# Altium integrated library SophistiLib.IntLib: 38 symbols
Pins are listed as number, name and electrical type; pins without a type are passive.

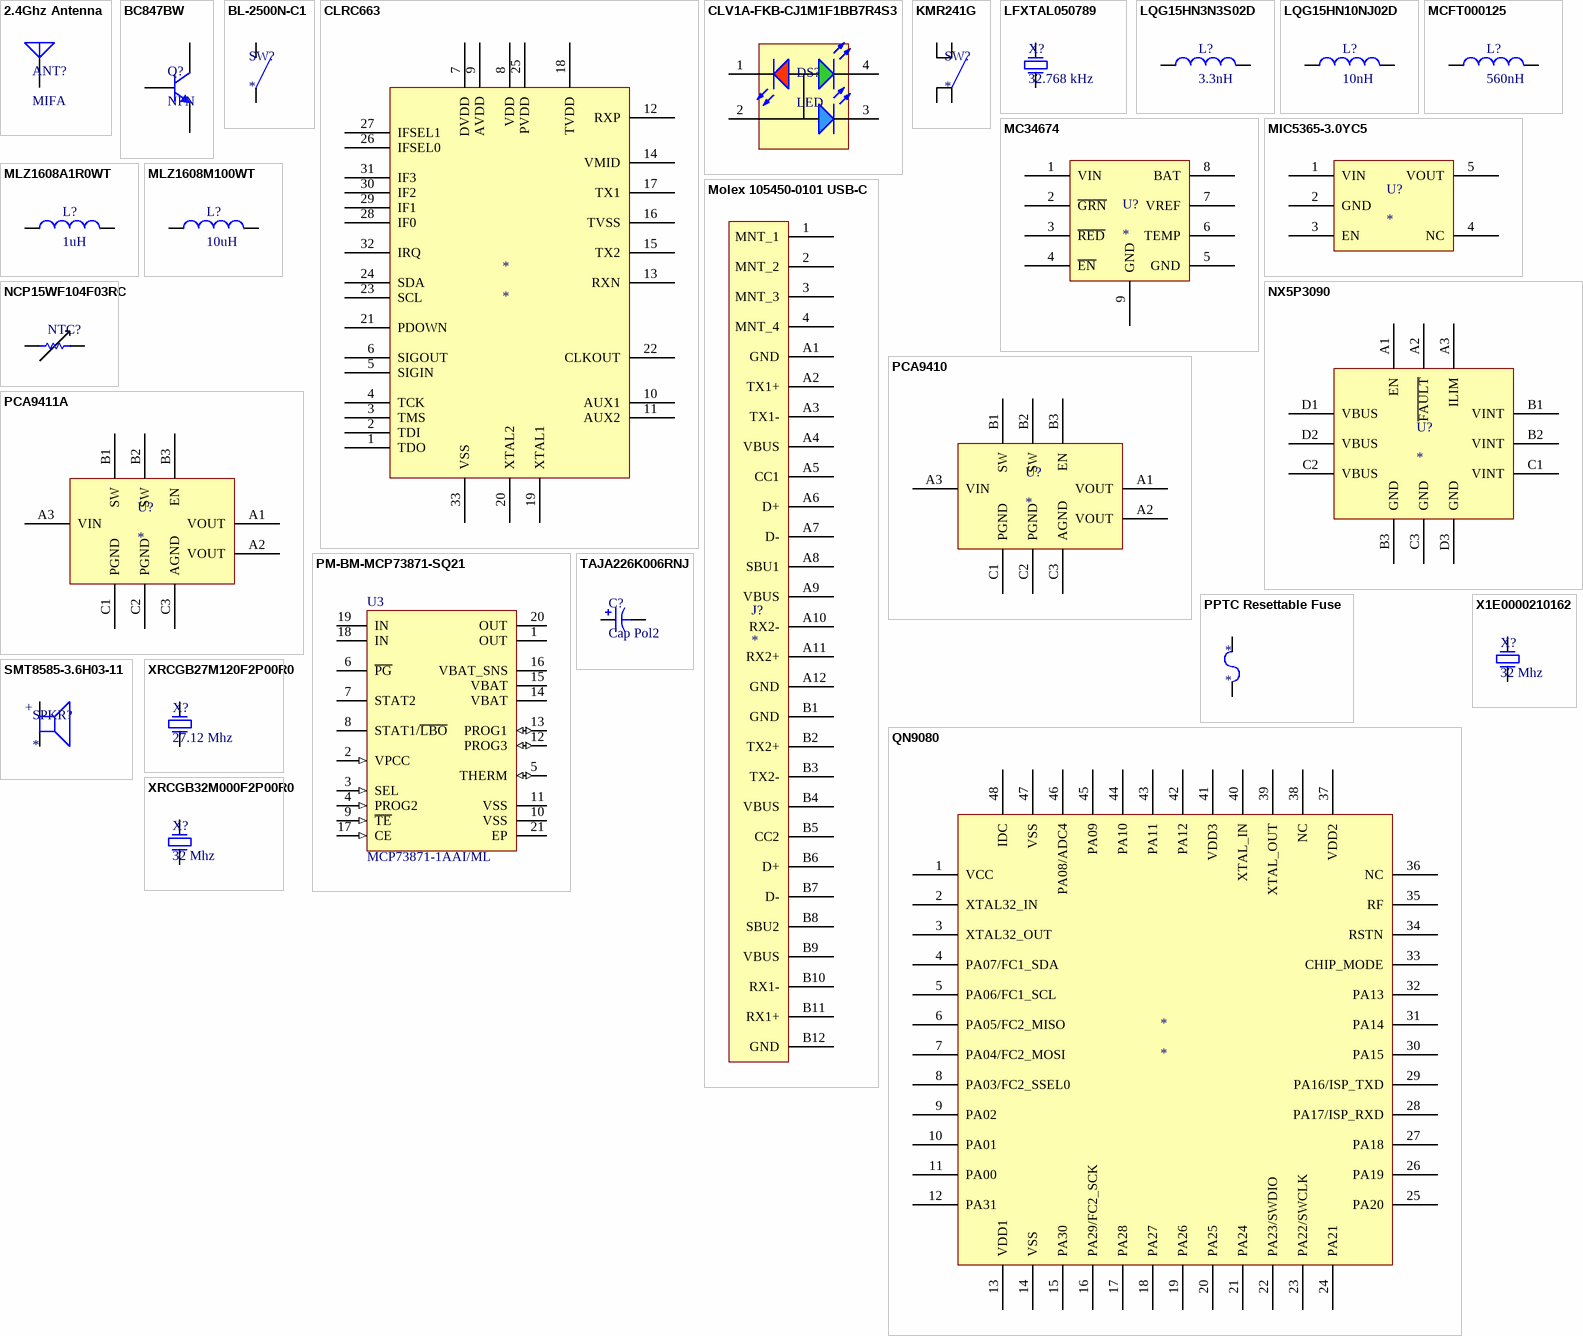
[diagram p0: symbols 2.4Ghz Antenna to XRCGB32M000F2P00R0]

## 2.4Ghz Antenna
designator ANT?, comment MIFA
2.4 Ghz MIFA Antenna
footprint 2.4G MIFA (2.4G MIFA Trace Antenna)
pins: 1 A, 2 GND hidden to GND

## BC847BW
designator Q?, comment NPN
Bipolar (BJT) Single Transistor, General Purpose, NPN, 45 V, 100 MHz, 200 mW, 100 mA, 200 hFE
footprint SOT323
pins: 1 B, 2 E, 3 C

## BL-2500N-C1
designator SW?
SMD vibration sensor
footprint BL-2500N-C1
pins: 1, 2

## CLRC663
designator *
RFID READER, 13.56MHZ, HVQFN-32
footprint HVQFN-32
pins: 1 TDO, 2 TDI, 3 TMS, 4 TCK, 5 SIGIN, 6 SIGOUT, 7 DVDD, 8 VDD, 9 AVDD, 10 AUX1, 11 AUX2, 12 RXP, 13 RXN, 14 VMID, 15 TX2, 16 TVSS, 17 TX1, 18 TVDD, 19 XTAL1, 20 XTAL2, 21 PDOWN, 22 CLKOUT, 23 SCL, 24 SDA, 25 PVDD, 26 IFSEL0, 27 IFSEL1, 28 IF0, 29 IF1, 30 IF2, 31 IF3, 32 IRQ, 33 VSS

## CLV1A-FKB-CJ1M1F1BB7R4S3
designator DS?, comment LED
RGB LED, SMD, 120 °, Round, R 20mA, G 20mA, B 20mA
footprint RGB_LED_3.2x2.8
pins: 1 RED, 2 +, 3 Blue, 4 Green

## KMR241G
designator SW?
Tactile Switch 2.4x2.8 mm, SPST
footprint KMR241G
pins: 1 A1, 2 B1, 3 A2, 4 B2

## LFXTAL050789
designator X?, comment 32.768 kHz
Crystal, 32.768 kHz, SMD, 2mm x 1.2mm, 12.5 pF, 20 ppm
footprint OSC20x12_2P (Crystal 2.0x1.2 mm 2 Pins)
pins: 1 I/O, 2 I/O

## LQG15HN3N3S02D
designator L?, comment 3.3nH
High Frequency Inductor, LQG15HN Series, 3.3 nH, 300 mA, 0402; Value: 3.3nH
footprint INDC0402
pins: 1, 2

## LQG15HN10NJ02D
designator L?, comment 10nH
High Frequency Inductor, LQG15HN Series, 10 nH, 300 mA, 0402; Value: 10nH
footprint INDC0402
pins: 1, 2

## MC34674
designator U?
High Input Voltage Travel Charger for Single-cell Li-Ion Batteries
footprint UDFN8
pins: 1 VIN (power), 2 ~{GRN} (oc), 3 ~{RED} (oc), 4 ~{EN}, 5 GND (power), 6 TEMP, 7 VREF, 8 BAT (power), 9 GND (power)

## MCFT000125
designator L?, comment 560nH
High Frequency Inductor, MCFT Series, 560 nH, 230 mA, 0805; Value: 560nH
footprint INDC0805
pins: 1, 2

## MIC5365-3.0YC5
designator U?
3.0V LDO Voltage Regulator
footprint SC-70
pins: 1 VIN, 2 GND, 3 EN, 4 NC, 5 VOUT

## MLZ1608A1R0WT
designator L?, comment 1uH
High Frequency Inductor, MLZ Series, 1 µH, 600 mA, 0603; Value: 1uH
footprint INDC0603
pins: 1, 2

## MLZ1608M100WT
designator L?, comment 10uH
High Frequency Inductor, MLZ Series, 10 µH, 250 mA, 0603; Value: 10uH
footprint INDC0603
pins: 1, 2

## Molex 105450-0101 USB-C
designator J?
USB Shielded I/O Receptacle, Type C, Right Angle, Top Mount, Surface Mount
footprint Molex 105450-0101 USB-C
pins: 1 MNT_1, 2 MNT_2, 3 MNT_3, 4 MNT_4, A1 GND, A2 TX1+, A3 TX1-, A4 VBUS, A5 CC1, A6 D+, A7 D-, A8 SBU1, A9 VBUS, A10 RX2-, A11 RX2+, A12 GND, B1 GND, B2 TX2+, B3 TX2-, B4 VBUS, B5 CC2, B6 D+, B7 D-, B8 SBU2, B9 VBUS, B10 RX1-, B11 RX1+, B12 GND

## NCP15WF104F03RC
designator NTC?
Thermistor, NTC, 100 kohm, NCP Series, 4250 K, SMD, 0402
footprint THRMC0402
pins: 1, 2

## NX5P3090
designator U?
USB PD and type C current-limited power switch
footprint WLCSP12
pins: A1 EN, A2 ~{FAULT}, A3 ILIM, B1 VINT (power), B2 VINT (power), B3 GND (power), C1 VINT (power), C2 VBUS (power), C3 GND (power), D1 VBUS (power), D2 VBUS (power), D3 GND (power)

## PCA9410
designator U?
3.0 MHz, 500 mA, DC-to-DC boost converter, 2.5 min in, 5.0 out, non pass-through
footprint WLCSP9
pins: A1 VOUT, A2 VOUT, A3 VIN, B1 SW, B2 SW, B3 EN, C1 PGND, C2 PGND, C3 AGND

## PCA9411A
designator U?
3.0 MHz, 500 mA, DC-to-DC boost converter, 2.5 min in, 5.25 out, pass-through
footprint WLCSP9
pins: A1 VOUT, A2 VOUT, A3 VIN, B1 SW, B2 SW, B3 EN, C1 PGND, C2 PGND, C3 AGND

## PM-BM-MCP73871-SQ21
designator U3, comment MCP73871-1AAI/ML
Stand-Alone System Load Sharing and Li-Ion/Li-Polymer Battery Charge Management Controller, 4.1V, 20-Pin QFN, Industrial Temperature; PackageDescription: 20-Lead Plastic Quad Flat, No Lead Package (ML) - 4x4x0.9 mm Body [QFN]; PackageVersion: revBB, Aug-2009; DatasheetVersion: revB, May-2009; PackageReference: QFN-ML20
footprint QFN-ML20_N (QFN, 20-Leads, Body 4x4mm, Pitch 0.5mm, Thermal Pad 2.8x2.8mm, IPC Medium Density)
footprint QFN-ML20_L (QFN, 20-Leads, Body 4x4mm, Pitch 0.5mm, Thermal Pad 2.8x2.8mm, IPC High Density)
footprint QFN-ML20_M (QFN, 20-Leads, Body 4x4mm, Pitch 0.5mm, Thermal Pad 2.8x2.8mm, IPC Low Density)
pins: 1 OUT (power), 2 VPCC (in), 3 SEL (in), 4 PROG2 (in), 5 THERM (io), 6 ~{PG} (oc), 7 STAT2 (oc), 8 STAT1/~{LBO} (oc), 9 ~{TE} (in), 10 VSS (power), 11 VSS (power), 12 PROG3 (io), 13 PROG1 (io), 14 VBAT (power), 15 VBAT (power), 16 VBAT_SNS (power), 17 CE (in), 18 IN (power), 19 IN (power), 20 OUT (power), 21 EP (power)

## PPTC Resettable Fuse
designator *
PPTC Resettable Fuse
footprint FUSC0805
pins: 1, 2

## QN9080
designator *
BLE microcontroller with 32-bit ARM Cortex-M4
footprint HVQFN-48
pins: 1 VCC, 2 XTAL32_IN, 3 XTAL32_OUT, 4 PA07/FC1_SDA, 5 PA06/FC1_SCL, 6 PA05/FC2_MISO, 7 PA04/FC2_MOSI, 8 PA03/FC2_SSEL0, 9 PA02, 10 PA01, 11 PA00, 12 PA31, 13 VDD1 (power), 14 VSS (power), 15 PA30, 16 PA29/FC2_SCK, 17 PA28, 18 PA27, 19 PA26, 20 PA25, 21 PA24, 22 PA23/SWDIO, 23 PA22/SWCLK, 24 PA21, 25 PA20, 26 PA19, 27 PA18, 28 PA17/ISP_RXD, 29 PA16/ISP_TXD, 30 PA15, 31 PA14, 32 PA13, 33 CHIP_MODE, 34 RSTN, 35 RF, 36 NC, 37 VDD2, 38 NC, 39 XTAL_OUT, 40 XTAL_IN, 41 VDD3 (power), 42 PA12, 43 PA11, 44 PA10, 45 PA09, 46 PA08/ADC4, 47 VSS (power), 48 IDC (power), 49 GND (power) hidden to GND

## SMT8585-3.6H03-11
designator SPKR?
Electro-Magnet Transducer, 2.5-4.5 Vo-p, 15±3ohm
footprint SMT8585-3.6H03-11
pins: 1 +, 2 -, 3 M hidden, 4 M hidden

## TAJA226K006RNJ
designator C?, comment Cap Pol2
Surface Mount Tantalum Capacitor, 22 µF, 6.3 V, TAJ Series, ± 10%, 1206 [3216 Metric]
footprint POLCAP1206
pins: 1, 2

## X1E0000210162
designator X?, comment 32 Mhz
Crystal, 32 MHz, SMD, 3.2mm x 2.5mm, 10 ppm, 9 pF, 10 ppm
footprint OSC32X25
pins: 1 I/O, 2 GND hidden to GND, 3 I/O, 4 GND hidden to GND

## XRCGB27M120F2P00R0
designator X?, comment 27.12 Mhz
Crystal, 27.12 MHz, SMD, 2mm x 1.6mm, 20 ppm, 6 pF
footprint OSC20x16
pins: 1 I/O, 2 GND hidden to GND, 3 I/O, 4 GND hidden to GND

## XRCGB32M000F2P00R0
designator X?, comment 32 Mhz
Crystal, 32 MHz, SMD, 2mm x 1.6mm, 20 ppm, 6 pF
footprint OSC20x16
pins: 1 I/O, 2 GND hidden to GND, 3 I/O, 4 GND hidden to GND


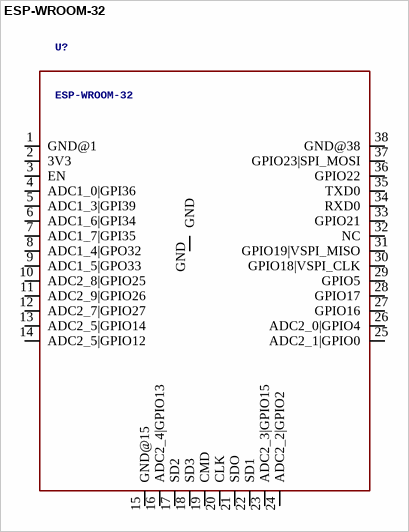
[diagram p1: symbol ESP-WROOM-32]

## ESP-WROOM-32
designator U?
GateName_1: G$1; SymbolName_1: ESP-WROOM-32; LibraryName: esp32; DeviceSetName: ESP-WROOM-32
footprint ESP-WROOM-32
pins: 1 GND@1, 2 3V3, 3 EN, 4 ADC1_0|GPI36, 5 ADC1_3|GPI39, 6 ADC1_6|GPI34, 7 ADC1_7|GPI35, 8 ADC1_4|GPO32, 9 ADC1_5|GPO33, 10 ADC2_8|GPIO25, 11 ADC2_9|GPIO26, 12 ADC2_7|GPIO27, 13 ADC2_5|GPIO14, 14 ADC2_5|GPIO12, 15 GND@15, 16 ADC2_4|GPIO13, 17 SD2, 18 SD3, 19 CMD, 20 CLK, 21 SDO, 22 SD1, 23 ADC2_3|GPIO15, 24 ADC2_2|GPIO2, 25 ADC2_1|GPIO0, 26 ADC2_0|GPIO4, 27 GPIO16, 28 GPIO17, 29 GPIO5, 30 GPIO18|VSPI_CLK, 31 GPIO19|VSPI_MISO, 32 NC, 33 GPIO21, 34 RXD0, 35 TXD0, 36 GPIO22, 37 GPIO23|SPI_MOSI, 38 GND@38, GND


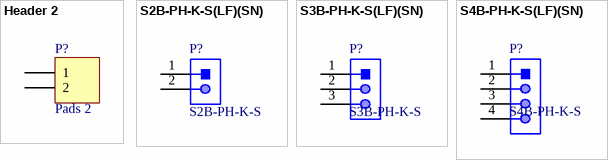
[diagram p2: symbols Header 2 to S4B-PH-K-S(LF)(SN)]

## Header 2
designator P?, comment Pads 2
Pads Through Hole 2 pins; LatestRevisionDate: 17-Jul-2002; LatestRevisionNote: Re-released for DXP Platform.; Publisher: Altium Limited
footprint HDRPDS2 (Connector; Header; 2 Position)
signal-integrity model Connector
pins: 1, 2

## S2B-PH-K-S(LF)(SN)
designator P?, comment S2B-PH-K-S
Male Header, Pitch 2 mm, 1 x 2 Position, Height 4.8 mm, Tail Length 3.4 mm, -25 to 85 degC, RoHS, Bulk; Case\Package: Radial; Tolerance: 20%; Capacitance: 10 uF; Voltage Rating (DC): 50 V; Packaging: Bulk; ComponentLink1URL: http://www.jst-mfg.com/product/pdf/eng/ePH.pdf; Radiation Hardening: No; Height: 11 mm; Package Quantity: 200; PackageDescription: Male Header, Pitch 2 mm, 1 x 2 Position, Height 4.8 mm, Tail Length 3.4 mm; PackageReference: S2B-PH-K-S; Diameter: 5 mm; Pins: 2; Mount: Through Hole; Max Operating Temperature: 85 degC; Min Operating Temperature: -40 degC; ComponentLink1Description: Datasheet; DatasheetVersion: Dec-12; Length: 11 mm; Lead Pitch: 2 mm; REACH SVHC: No SVHC; Voltage Rating: 50 V; RoHSCompliant: true
footprint JST-S2B-PH-K-S_V (THD, 2-Leads, Body 7.6x5.9mm, Pitch 2mm)
pins: 1, 2

## S3B-PH-K-S(LF)(SN)
designator P?, comment S3B-PH-K-S
Male Header, Pitch 2 mm, 1 x 2 Position, Height 4.8 mm, Tail Length 3.4 mm, -25 to 85 degC, RoHS, Bulk; Case\Package: Radial; Tolerance: 20%; Capacitance: 10 uF; Voltage Rating (DC): 50 V; Packaging: Bulk; ComponentLink1URL: http://www.jst-mfg.com/product/pdf/eng/ePH.pdf; Radiation Hardening: No; Height: 11 mm; Package Quantity: 200; PackageDescription: Male Header, Pitch 2 mm, 1 x 3 Position, Height 4.8 mm, Tail Length 3.4 mm; PackageReference: S2B-PH-K-S; Diameter: 5 mm; Pins: 2; Mount: Through Hole; Max Operating Temperature: 85 degC; Min Operating Temperature: -40 degC; ComponentLink1Description: Datasheet; DatasheetVersion: Dec-12; Length: 11 mm; Lead Pitch: 2 mm; REACH SVHC: No SVHC; Voltage Rating: 50 V; RoHSCompliant: true
footprint JST-S3B-PH-K-S_V (THD, 3-Leads, Body 7.6x5.9mm, Pitch 2mm)
pins: 1, 2, 3

## S4B-PH-K-S(LF)(SN)
designator P?, comment S4B-PH-K-S
Male Header, Pitch 2 mm, 1 x 2 Position, Height 4.8 mm, Tail Length 3.4 mm, -25 to 85 degC, RoHS, Bulk; Case\Package: Radial; Tolerance: 20%; Capacitance: 10 uF; Voltage Rating (DC): 50 V; Packaging: Bulk; ComponentLink1URL: http://www.jst-mfg.com/product/pdf/eng/ePH.pdf; Radiation Hardening: No; Height: 11 mm; Package Quantity: 200; PackageDescription: Male Header, Pitch 2 mm, 1 x 4 Position, Height 4.8 mm, Tail Length 3.4 mm; PackageReference: S2B-PH-K-S; Diameter: 5 mm; Pins: 2; Mount: Through Hole; Max Operating Temperature: 85 degC; Min Operating Temperature: -40 degC; ComponentLink1Description: Datasheet; DatasheetVersion: Dec-12; Length: 11 mm; Lead Pitch: 2 mm; REACH SVHC: No SVHC; Voltage Rating: 50 V; RoHSCompliant: true
footprint JST-S4B-PH-K-S_V (THD, 4-Leads, Body 7.6x5.9mm, Pitch 2mm)
pins: 1, 2, 3, 4


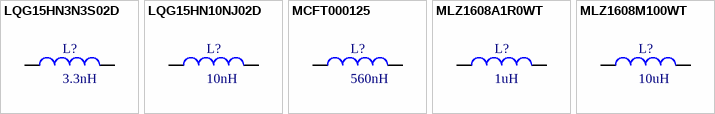
[diagram p3: symbols LQG15HN3N3S02D to MLZ1608M100WT]

## LQG15HN3N3S02D
designator L?, comment 3.3nH
High Frequency Inductor, LQG15HN Series, 3.3 nH, 300 mA, 0402; Value: 3.3nH
footprint INDC0402
pins: 1, 2

## LQG15HN10NJ02D
designator L?, comment 10nH
High Frequency Inductor, LQG15HN Series, 10 nH, 300 mA, 0402; Value: 10nH
footprint INDC0402
pins: 1, 2

## MCFT000125
designator L?, comment 560nH
High Frequency Inductor, MCFT Series, 560 nH, 230 mA, 0805; Value: 560nH
footprint INDC0805
pins: 1, 2

## MLZ1608A1R0WT
designator L?, comment 1uH
High Frequency Inductor, MLZ Series, 1 µH, 600 mA, 0603; Value: 1uH
footprint INDC0603
pins: 1, 2

## MLZ1608M100WT
designator L?, comment 10uH
High Frequency Inductor, MLZ Series, 10 µH, 250 mA, 0603; Value: 10uH
footprint INDC0603
pins: 1, 2


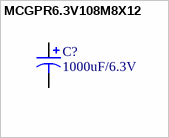
[diagram p4: symbol MCGPR6.3V108M8X12]

## MCGPR6.3V108M8X12
designator C?, comment 1000uF/6.3V
CAP ALUM 1000UF 6.3V 20% RADIAL; PartNumber: ECA-1JHG471; ComponentLink1Description: Datasheet; PackageReference: ECA-1JHG471
footprint MCGPR6.3V108M8X12
pins: 1 +, 2 -